# Altium footprint library ES_Pcb_x.PcbLib: 354 footprints (part 15 of 23)
Each footprint in its own frame and in the unit in brackets; x right, y up, seen from the top. Pads: shape width x height; smd on the part's side, far side on the other; paste and mask are expansions set on the pad; w line width, h text height; cw(c..) or ccw(c..) is an arc to the next point about the centre after c.
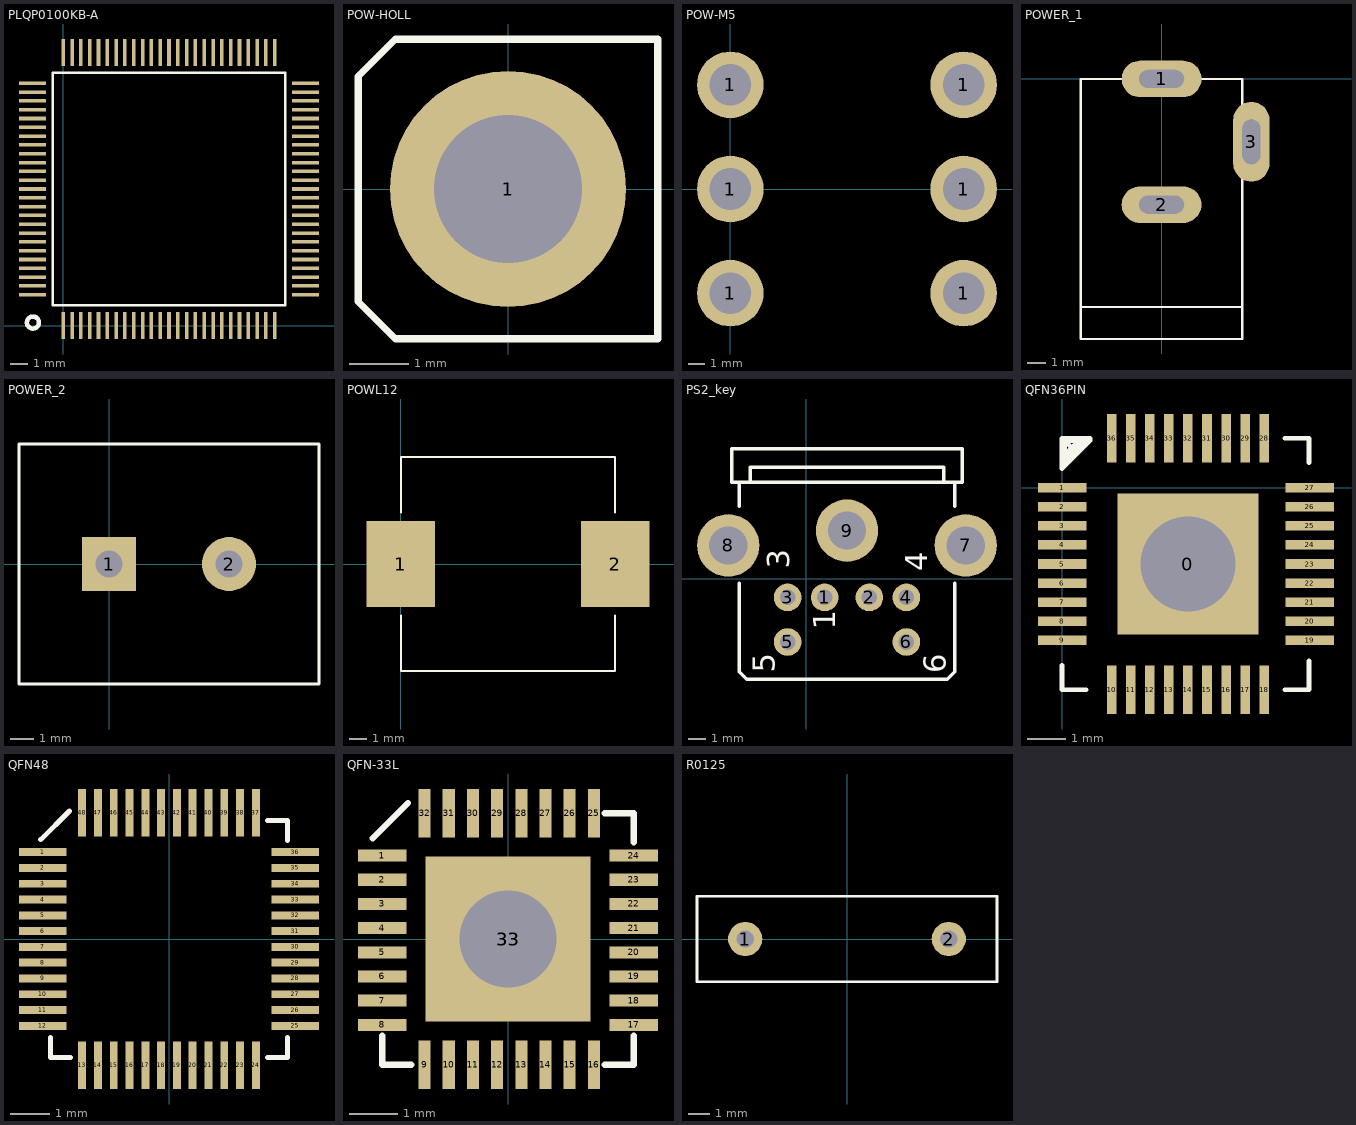
[diagram p14: the footprints below, top view; thin cyan lines are the x and y axes]

## PCBComponent_1 - duplicate8 [mm]

## PCBComponent_1 - duplicate9 [mm]

## PCBComponent_1 - duplicate10 [mm]

## PCBComponent_1 - duplicate11 [mm]

## PCBComponent_1 - duplicate12 [mm]

## PLQP0100KB-A [mil]
pads (100):
  rect 8x60 smd: 1(0,0) 2(19.68,0) 3(39.37,0) 4(59.05,0) 5(78.74,0) 6(98.42,0) 7(118.11,0) 8(137.79,0) 9(157.48,0) 10(177.16,0) 11(196.85,0) 12(216.53,0) 13(236.22,0) 14(255.91,0) 15(275.59,0) 16(295.28,0) 17(314.96,0) 18(334.65,0) 19(354.33,0) 20(374.02,0) 21(393.7,0) 22(413.39,0) 23(433.07,0) 24(452.76,0) 25(472.44,0) 51(472.44,610.24) 52(452.76,610.24) 53(433.07,610.24) 54(413.39,610.24) 55(393.7,610.24) 56(374.02,610.24) 57(354.33,610.24) 58(334.65,610.24) 59(314.96,610.24) 60(295.28,610.24) 61(275.59,610.24) 62(255.91,610.24) 63(236.22,610.24) 64(216.53,610.24) 65(196.85,610.24) 66(177.16,610.24) 67(157.48,610.24) 68(137.79,610.24) 69(118.11,610.24) 70(98.42,610.24) 71(78.74,610.24) 72(59.05,610.24) 73(39.37,610.24) 74(19.68,610.24) 75(0,610.24)
  rect 60x8 smd: 26(541.34,68.9) 27(541.34,88.58) 28(541.34,108.27) 29(541.34,127.95) 30(541.34,147.64) 31(541.34,167.32) 32(541.34,187.01) 33(541.34,206.69) 34(541.34,226.38) 35(541.34,246.06) 36(541.34,265.75) 37(541.34,285.43) 38(541.34,305.12) 39(541.34,324.8) 40(541.34,344.49) 41(541.34,364.17) 42(541.34,383.86) 43(541.34,403.54) 44(541.34,423.23) 45(541.34,442.91) 46(541.34,462.6) 47(541.34,482.28) 48(541.34,501.97) 49(541.34,521.65) 50(541.34,541.34) 76(-68.9,541.34) 77(-68.9,521.65) 78(-68.9,501.97) 79(-68.9,482.28) 80(-68.9,462.6) 81(-68.9,442.91) 82(-68.9,423.23) 83(-68.9,403.54) 84(-68.9,383.86) 85(-68.9,364.17) 86(-68.9,344.49) 87(-68.9,324.8) 88(-68.9,305.12) 89(-68.9,285.43) 90(-68.9,265.75) 91(-68.9,246.06) 92(-68.9,226.38) 93(-68.9,206.69) 94(-68.9,187.01) 95(-68.9,167.32) 96(-68.9,147.64) 97(-68.9,127.95) 98(-68.9,108.27) 99(-68.9,88.58) 100(-68.9,68.9)
Top Overlay:
  circle w10: c-67.82,6.71 r13.45
  lines w5: -23.62,45.28 -23.62,564.96 496.06,564.96 496.06,45.28 -23.62,45.28

## POW-HOLL [mm]
pads (1):
  round 4 hole 2.5: 1(0,0)
Top Overlay:
  lines w0.127: -2.54,-1.905 -2.54,1.905 -1.905,2.54 2.54,2.54 2.54,-2.54 -1.905,-2.54 -2.54,-1.905

## POW-M5 [mm]
pads (6):
  round 4 hole 2.5: 1(0,-6.25) 1(0,0) 1(0,6.25) 1(14,-6.25) 1(14,0) 1(14,6.25)

## POWER_1 [mm]
pads (3):
  oval 4.445x2.032 hole 1 slot 2.5 at 0 deg: 1(0,0) 2(0,-7)
  oval 2.032x4.445 hole 1 slot 2.5 at 90 deg: 3(5,-3.5)
Top Overlay:
  lines w0.127: -4.49,-12.7 4.445,-12.7 ; -4.5,-14.478 4.5,-14.478 4.5,0 -4.5,0 -4.5,-14.478

## POWER_2 [mil]
pads (2):
  rect 90x90 hole 45: 1(0,0)
  round 90 hole 45: 2(200,0)
Top Overlay:
  lines w5: -150,-200 -150,200 350,200 350,-200 -150,-200

## POWL12 [mm]
pads (2):
  rect 4x5 smd: 1(0,0) 2(12.5,0)
Top Overlay:
  lines w0.127: 0,-3 0,-6.25 12.5,-6.25 12.5,-3 ; 0,3 0,6.25 12.5,6.25 12.5,3

## PS2_key [mil]
pads (9):
  round 62 hole 35: 1(41.67,-41.67) 2(141.67,-41.67) 3(-41.67,-41.67) 4(225,-41.67) 5(-41.67,-141.67) 6(225,-141.67)
  round 140 hole 86: 7(358.33,75) 8(-175,75) 9(91.67,108.33)
Bottom Layer:
  lines w10: 224,-142.67 225,-141.67
Top Overlay:
  lines w8: -150,-10.17 -150,-208.33 -133.33,-225 316.67,-225 333.33,-208.33 333.33,-10.17 ; -150,163.06 -150,216.67 ; 333.33,163.06 333.33,216.67 ; -125,216.67 -125,250 308.33,250 308.33,216.67 ; -125,216.67 -166.67,216.67 -166.67,291.67 350,291.67 350,216.67 308.33,216.67 ; -125,216.67 308.33,216.67
  text "5" at -70.9,-211.1 h50
  text "6" at 313.1,-212.43 h50
  text "4" at 271.76,16.9 h50
  text "3" at -37.57,22.24 h50
  text "1" at 65.1,-113.76 h50

## QFN36PIN [mm]
pads (37):
  rect 3.7x3.7 hole 2.5: 0(3.302,-2)
  rect 1.27x0.25 smd: 1(0,0) 2(0,-0.5) 3(0,-1) 4(0,-1.5) 5(0,-2) 6(0,-2.5) 7(0,-3) 8(0,-3.5) 9(0,-4) 19(6.502,-4) 20(6.502,-3.5) 21(6.502,-3) 22(6.502,-2.5) 23(6.502,-2) 24(6.502,-1.5) 25(6.502,-1) 26(6.502,-0.5) 27(6.502,0)
  rect 0.25x1.27 smd: 10(1.302,-5.302) 11(1.802,-5.302) 12(2.302,-5.302) 13(2.802,-5.302) 14(3.302,-5.302) 15(3.802,-5.302) 16(4.302,-5.302) 17(4.802,-5.302) 18(5.302,-5.302) 28(5.302,1.302) 29(4.802,1.302) 30(4.302,1.302) 31(3.802,1.302) 32(3.302,1.302) 33(2.802,1.302) 34(2.302,1.302) 35(1.802,1.302) 36(1.302,1.302)
Top Overlay:
  lines w0.127: 0,-4.667 0,-5.302 0.635,-5.302 ; 0.254,1.049 0.065,1.238 0.064,1.238 ; 0.508,1.175 0,0.667 0,1.302 ; 5.842,-5.302 6.477,-5.302 6.477,-4.54 ; 5.842,1.302 6.477,1.302 6.477,0.667 ; 0,1.302 0.064,1.238 ; 0,1.302 0.508,1.302 ; 0.064,1.238 0.064,0.92 0.095,0.89 ; 0.064,1.238 0.73,1.238 ; 0.095,0.89 0.507,1.302 ; 0.095,0.89 0,0.795 0,0.508 0.73,1.238 ; 0.095,0.89 0.095,0.667 0.73,1.302 ; 0.507,1.302 0.73,1.302 ; 0.508,1.302 0.73,1.302 ; 0.73,1.238 0.73,1.302

## QFN48 [mm]
pads (48):
  rect 1.2x0.2 smd: 1(-3.2,2.2) 2(-3.2,1.8) 3(-3.2,1.4) 4(-3.2,1) 5(-3.2,0.6) 6(-3.2,0.2) 7(-3.2,-0.2) 8(-3.2,-0.6) 9(-3.2,-1) 10(-3.2,-1.4) 11(-3.2,-1.8) 12(-3.2,-2.2) 25(3.2,-2.2) 26(3.2,-1.8) 27(3.2,-1.4) 28(3.2,-1) 29(3.2,-0.6) 30(3.2,-0.2) 31(3.2,0.2) 32(3.2,0.6) 33(3.2,1) 34(3.2,1.4) 35(3.2,1.8) 36(3.2,2.2)
  rect 0.2x1.2 smd: 13(-2.2,-3.2) 14(-1.8,-3.2) 15(-1.4,-3.2) 16(-1,-3.2) 17(-0.6,-3.2) 18(-0.2,-3.2) 19(0.2,-3.2) 20(0.6,-3.2) 21(1,-3.2) 22(1.4,-3.2) 23(1.8,-3.2) 24(2.2,-3.2) 37(2.2,3.2) 38(1.8,3.2) 39(1.4,3.2) 40(1,3.2) 41(0.6,3.2) 42(0.2,3.2) 43(-0.2,3.2) 44(-0.6,3.2) 45(-1,3.2) 46(-1.4,3.2) 47(-1.8,3.2) 48(-2.2,3.2)
Top Overlay:
  lines w0.127: -3.251,2.515 -2.521,3.245 ; -3,-3 -2.5,-3 ; -3,-2.997 -3,-2.5 ; 2.5,-3 2.997,-3 ; 2.5,3 3,3 ; 3,-3 3,-2.5 ; 3,2.5 3,2.997

## QFN-33L [mm]
pads (34):
  rect 1x0.25 smd: 1(-2.6,1.725) 2(-2.6,1.225) 3(-2.6,0.725) 4(-2.6,0.225) 5(-2.6,-0.275) 6(-2.6,-0.775) 7(-2.6,-1.275) 8(-2.6,-1.775) 17(2.6,-1.775) 18(2.6,-1.275) 19(2.6,-0.775) 20(2.6,-0.275) 21(2.6,0.225) 22(2.6,0.725) 23(2.6,1.225) 24(2.6,1.725)
  rect 0.25x1 smd: 9(-1.725,-2.6) 10(-1.225,-2.6) 11(-0.725,-2.6) 12(-0.225,-2.6) 13(0.275,-2.6) 14(0.775,-2.6) 15(1.275,-2.6) 16(1.775,-2.6) 25(1.775,2.6) 26(1.275,2.6) 27(0.775,2.6) 28(0.275,2.6) 29(-0.225,2.6) 30(-0.725,2.6) 31(-1.225,2.6) 32(-1.725,2.6)
  rect 3.4x3.4 smd: 33(0,0)
  round 3 hole 2: 33(0,0)
Top Overlay:
  lines w0.127: -2.794,2.083 -2.064,2.813 ; -2.6,-2 -2.6,-2.6 -2,-2.6 ; 2,-2.6 2.6,-2.6 2.6,-2 ; 2,2.6 2.6,2.6 2.6,2

## R0125 [mm]
pads (2):
  round 1.6 hole 0.8: 1(-4.75,0) 2(4.75,0)
Top Overlay:
  lines w0.127: -7,-2 -7,2 7,2 7,-2 -7,-2